# EAGLE library part LINEAR_LM339 (library mainboardv1.2)
Low Power Low Offset Voltage Quad Comparators with open collector; LM139/LM239/LM339/LM2901/LM3302
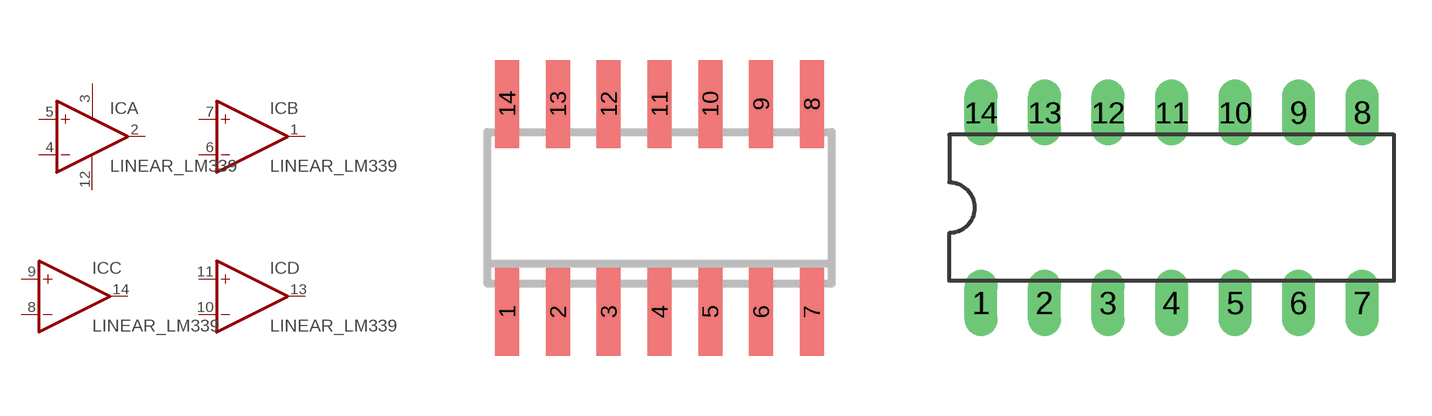
[diagram p3: symbol with the pads of LINEAR_SO14; footprints LINEAR_SO14, LINEAR_DIL14]

Designator prefix IC; gates A=LINEAR_COMPARATOR-OC B=LINEAR_COMPARATOR-OC C=LINEAR_COMPARATOR-OC D=LINEAR_COMPARATOR-OC P=LINEAR_PWR+G

## LINEAR_LM339D  [LINEAR_SO14]
1  B:OUT  oc
2  A:OUT  oc
3  P:V+  pwr
4  A:-IN  in
5  A:+IN  in
6  B:-IN  in
7  B:+IN  in
8  C:-IN  in
9  C:+IN  in
10  D:-IN  in
11  D:+IN  in
12  P:GND  pwr
13  D:OUT  oc
14  C:OUT  oc

## LINEAR_LM339N  [LINEAR_DIL14]
Pads as for LINEAR_SO14

## Footprint LINEAR_SO14 (pad centres in mm)
Small Outline Package 14
smd 0.6 x 2.2: 1 -3.81,-2.6; 2 -2.54,-2.6; 3 -1.27,-2.6; 4 0,-2.6; 5 1.27,-2.6; 6 2.54,-2.6; 7 3.81,-2.6; 8 3.81,2.6; 9 2.54,2.6; 10 1.27,2.6; 11 0,2.6; 12 -1.27,2.6; 13 -2.54,2.6; 14 -3.81,2.6

## Footprint LINEAR_DIL14 (pad centres in mm)
Dual In Line Package
drill 0.813 long: 1 -7.62,-3.81; 2 -5.08,-3.81; 3 -2.54,-3.81; 4 0,-3.81; 5 2.54,-3.81; 6 5.08,-3.81; 7 7.62,-3.81; 8 7.62,3.81; 9 5.08,3.81; 10 2.54,3.81; 11 0,3.81; 12 -2.54,3.81; 13 -5.08,3.81; 14 -7.62,3.81